# EAGLE library part TPD4S012 (library eagle-book)
4-channel Electrostatic Discharge (ESD) Protector for USB Interface
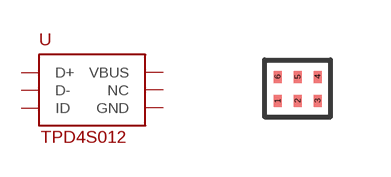
[diagram p16: symbol with the pads of R-PUSON-N6; footprint R-PUSON-N6]

Designator prefix U

## TPD4S012  [R-PUSON-N6]
1  D+
2  D-
3  ID
4  GND  pwr
5  NC  nc
6  VBUS

## Footprint R-PUSON-N6 (pad centres in mm)
6-pin Plastic small outline no-lead
smd 0.2 x 0.3: 1 -0.5,-0.3; 2 0,-0.3; 3 0.5,-0.3; 4 0.5,0.3; 5 0,0.3; 6 -0.5,0.3